# EAGLE library part MKL26Z128VFT4 (library mbed-KL26Z)
IC MCU ARM 128KB FLASH,QFN-48
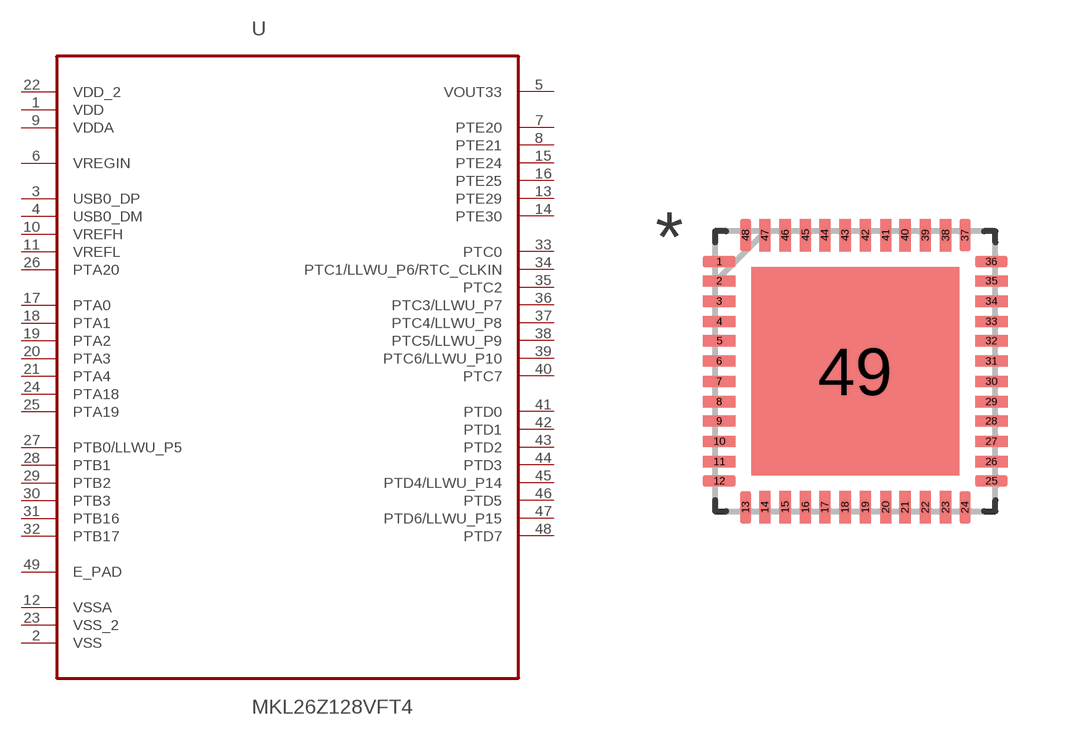
[diagram p1: symbol with the pads of QFN50P700X700X100-49N; footprint QFN50P700X700X100-49N]

Designator prefix U

## MKL26Z128VFT4 (MPN: MKL26Z128VFT4; OC_FARNELL: 2360678; OC_NEWARK: 09X0212; PACKAGE: QFN-48; SUPPLIER: FREESCALE SEMICONDUCTOR)  [QFN50P700X700X100-49N]
1  VDD  pwr
2  VSS  pas
3  USB0_DP  pas
4  USB0_DM  pas
5  VOUT33  out
6  VREGIN  in
7  PTE20
8  PTE21
9  VDDA  pwr
10  VREFH  pas
11  VREFL  pas
12  VSSA  pas
13  PTE29
14  PTE30
15  PTE24
16  PTE25
17  PTA0
18  PTA1
19  PTA2
20  PTA3
21  PTA4
22  VDD_2  pwr
23  VSS_2  pas
24  PTA18
25  PTA19
26  PTA20
27  PTB0/LLWU_P5
28  PTB1
29  PTB2
30  PTB3
31  PTB16
32  PTB17
33  PTC0
34  PTC1/LLWU_P6/RTC_CLKIN
35  PTC2
36  PTC3/LLWU_P7
37  PTC4/LLWU_P8
38  PTC5/LLWU_P9
39  PTC6/LLWU_P10
40  PTC7
41  PTD0
42  PTD1
43  PTD2
44  PTD3
45  PTD4/LLWU_P14
46  PTD5
47  PTD6/LLWU_P15
48  PTD7
49  E_PAD  pas

## Footprint QFN50P700X700X100-49N (pad centres in mm)
smd 0.813 x 0.28: 1 -3.404,2.743; 2 -3.404,2.261; 3 -3.404,1.753; 4 -3.404,1.245; 5 -3.404,0.762; 6 -3.404,0.254; 7 -3.404,-0.254; 8 -3.404,-0.762; 9 -3.404,-1.245; 10 -3.404,-1.753; 11 -3.404,-2.261; 12 -3.404,-2.743; 25 3.404,-2.743; 26 3.404,-2.261; 27 3.404,-1.753; 28 3.404,-1.245; 29 3.404,-0.762; 30 3.404,-0.254; 31 3.404,0.254; 32 3.404,0.762; 33 3.404,1.245; 34 3.404,1.753; 35 3.404,2.261; 36 3.404,2.743
smd 0.28 x 0.813: 13 -2.743,-3.404; 14 -2.261,-3.404; 15 -1.753,-3.404; 16 -1.245,-3.404; 17 -0.762,-3.404; 18 -0.254,-3.404; 19 0.254,-3.404; 20 0.762,-3.404; 21 1.245,-3.404; 22 1.753,-3.404; 23 2.261,-3.404; 24 2.743,-3.404; 37 2.743,3.404; 38 2.261,3.404; 39 1.753,3.404; 40 1.245,3.404; 41 0.762,3.404; 42 0.254,3.404; 43 -0.254,3.404; 44 -0.762,3.404; 45 -1.245,3.404; 46 -1.753,3.404; 47 -2.261,3.404; 48 -2.743,3.404
smd 5.207 x 5.207: 49 0,0